# Altium footprint library TSOT-23-8_L2.9-W1.6-P0.65-LS2.8-BR.PcbLib: 1 footprints
Each footprint in its own frame and in the unit in brackets; x right, y up, seen from the top. Pads: shape width x height; smd on the part's side, far side on the other; paste and mask are expansions set on the pad; w line width, h text height; cw(c..) or ccw(c..) is an arc to the next point about the centre after c.
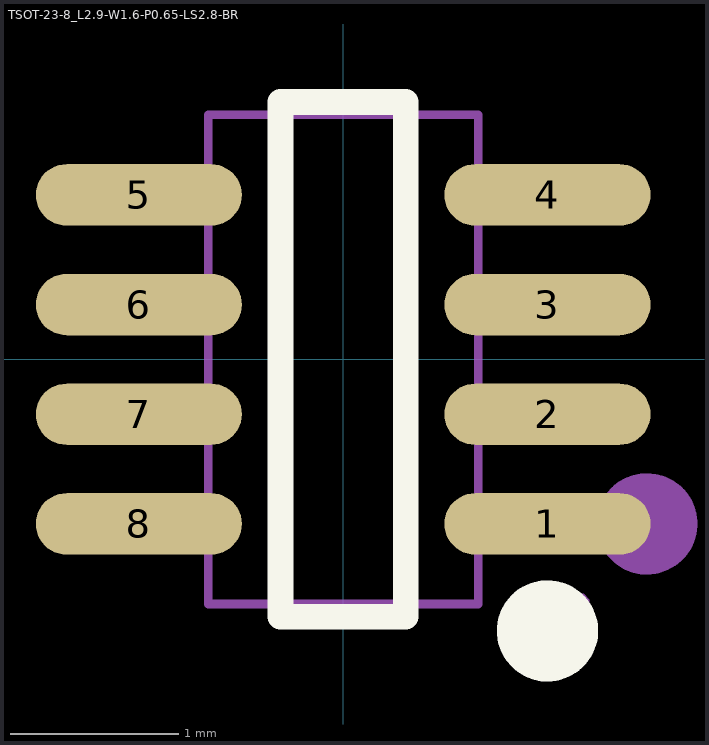
[diagram p0: the footprint, top view; thin cyan lines are the x and y axes]

## TSOT-23-8_L2.9-W1.6-P0.65-LS2.8-BR [mm]
pads (8):
  oval 1.222x0.364 smd paste+0 mask+0.051: 1(1.211,-0.975) 2(1.211,-0.325) 3(1.211,0.325) 4(1.211,0.975) 5(-1.211,0.975) 6(-1.211,0.325) 7(-1.211,-0.325) 8(-1.211,-0.975)
Top Overlay:
  circle w0.3: c1.211,-1.609 r0.15
  lines w0.152: -0.371,-1.526 -0.371,1.526 0.371,1.526 0.371,-1.526 -0.371,-1.526
Mechanical 6:
  circle w0.3: c1.8,-0.975 r0.15
Mechanical 15:
  region: -1.01,0.825 -0.79,0.825 -0.79,1.125 -1.01,1.125
  region: -1.4,0.825 -1,0.825 -1,1.125 -1.4,1.125
  region: -1.01,0.175 -0.79,0.175 -0.79,0.475 -1.01,0.475
  region: -1.4,0.175 -1,0.175 -1,0.475 -1.4,0.475
  region: -1.01,-0.475 -0.79,-0.475 -0.79,-0.175 -1.01,-0.175
  region: -1.4,-0.475 -1,-0.475 -1,-0.175 -1.4,-0.175
  region: -1.01,-1.125 -0.79,-1.125 -0.79,-0.825 -1.01,-0.825
  region: -1.4,-1.125 -1,-1.125 -1,-0.825 -1.4,-0.825
  region: 1.01,0.825 0.79,0.825 0.79,1.125 1.01,1.125
  region: 1.4,0.825 1,0.825 1,1.125 1.4,1.125
  region: 1.01,0.175 0.79,0.175 0.79,0.475 1.01,0.475
  region: 1.4,0.175 1,0.175 1,0.475 1.4,0.475
  region: 1.01,-0.475 0.79,-0.475 0.79,-0.175 1.01,-0.175
  region: 1.4,-0.475 1,-0.475 1,-0.175 1.4,-0.175
  region: 1.01,-1.125 0.79,-1.125 0.79,-0.825 1.01,-0.825
  region: 1.4,-1.125 1,-1.125 1,-0.825 1.4,-0.825
  region: 1.46,-1.45 1.46,-1.425 1.425,-1.39 1.375,-1.39 1.34,-1.425 1.34,-1.45 1.34,-1.475 1.375,-1.51 1.425,-1.51 1.46,-1.475 1.46,-1.45
  lines w0.051: -0.8,-1.45 -0.8,1.45 0.8,1.45 0.8,-1.45 -0.8,-1.45